# Altium footprint library MOLEX_0705530003.PcbLib: 1 footprints
Each footprint in its own frame and in the unit in brackets; x right, y up, seen from the top. Pads: shape width x height; smd on the part's side, far side on the other; paste and mask are expansions set on the pad; w line width, h text height; cw(c..) or ccw(c..) is an arc to the next point about the centre after c.
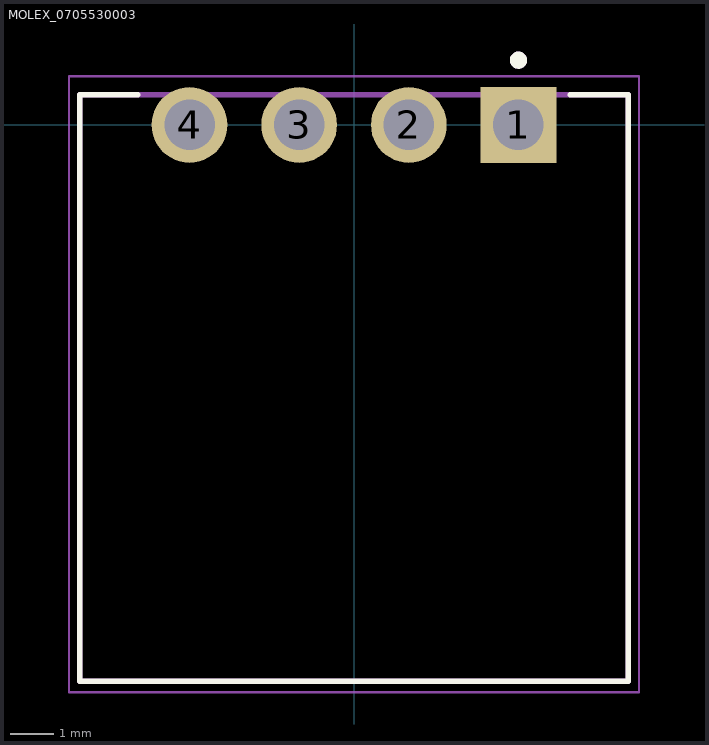
[diagram p0: the footprint, top view; thin cyan lines are the x and y axes]

## MOLEX_0705530003 [mm]
pads (4):
  rect 1.755x1.755 hole 1.17: 1(3.81,0)
  round 1.755 hole 1.17: 2(1.27,0) 3(-1.27,0) 4(-3.81,0)
Top Overlay:
  circle w0.2: c3.81,1.5 r0.1
  lines w0.127: -5.01,0.7 -6.355,0.7 -6.355,-12.89 6.355,-12.89 6.355,0.7 5.01,0.7
Mechanical 13:
  circle w0.2: c3.81,1.5 r0.1
  lines w0.127: -6.355,-12.89 6.355,-12.89 6.355,0.7 -6.355,0.7 -6.355,-12.89
Mechanical 15:
  lines w0.05: -6.605,-13.14 6.605,-13.14 6.605,1.128 -6.605,1.128 -6.605,-13.14
3D body "705530003.stp": height 7.11, standoff -3.17, extent -6.35,-12.954 6.35,0.635